# Altium schematic symbol library rgb_led.SchLib: 1 symbol
Pins are listed as number, name and electrical type; pins without a type are passive.

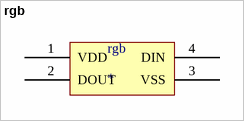
[diagram p0: symbol rgb]

## rgb
designator rgb
pins: 1 VDD, 2 DOUT, 3 VSS, 4 DIN